# Altium schematic symbol library high-luminous-led-12V.SchLib: 1 symbol
Pins are listed as number, name and electrical type; pins without a type are passive.

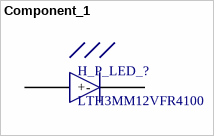
[diagram p0: symbol Component_1]

## Component_1
designator H_P_LED_?, comment LTH3MM12VFR4100
Standard LEDs - Through Hole 3mm Thru Hole LED 625nm for 12VDC
footprint H_P_LED_? (Standard LEDs - Through Hole 3mm Thru Hole LED 625nm for 12VDC)
pins: 1 +, 2 -